# Altium schematic symbol library PlantiumFormat.SchLib: 4 symbols
Pins are listed as number, name and electrical type; pins without a type are passive.

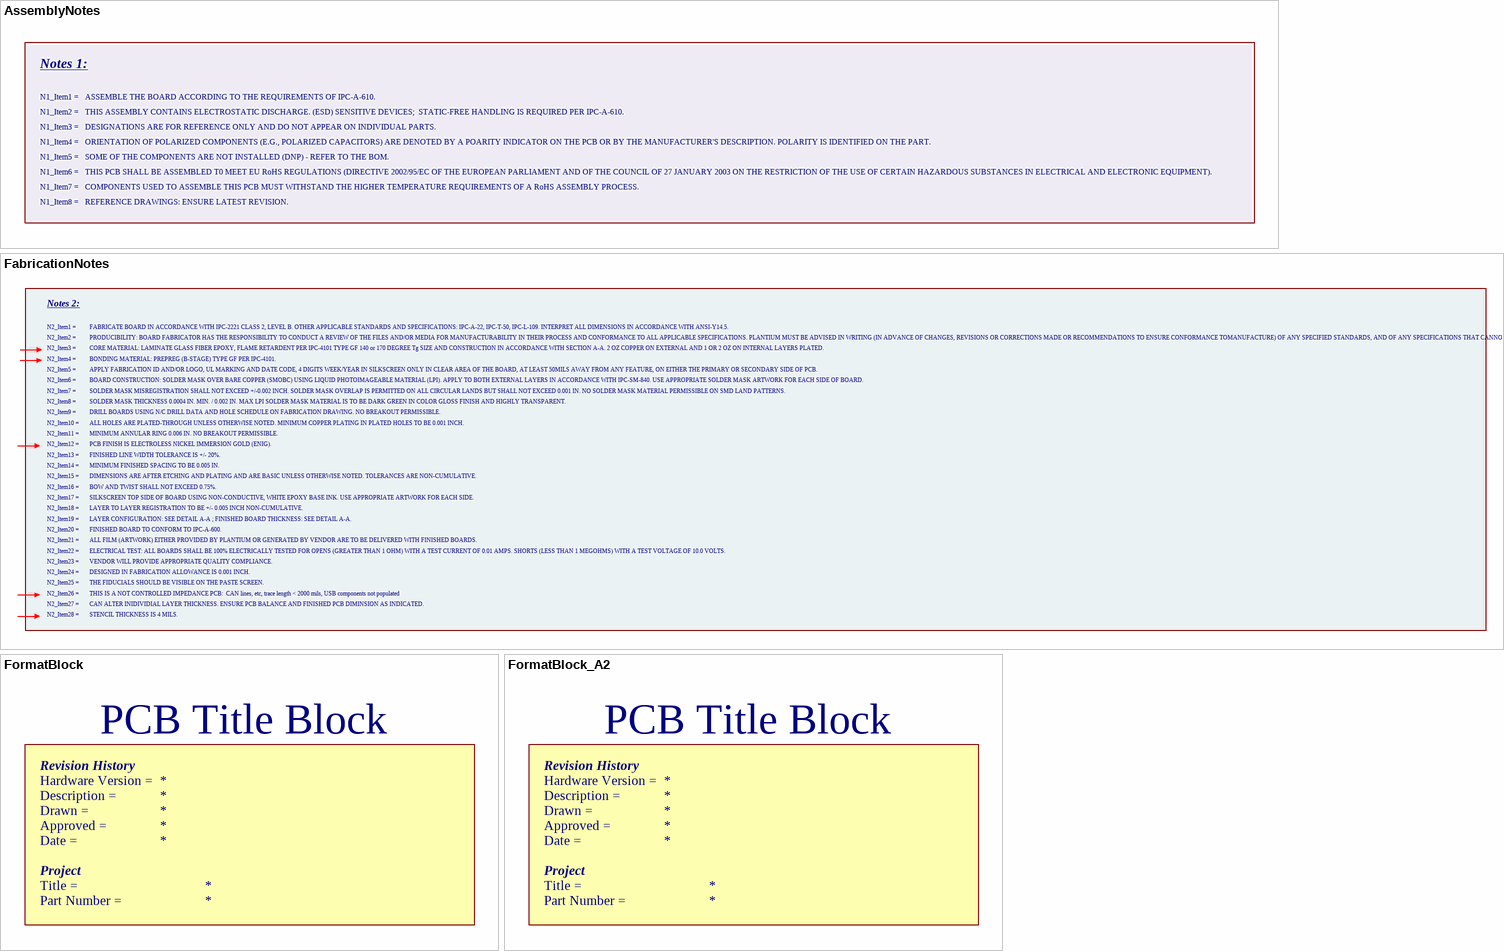
[diagram p0: symbols AssemblyNotes to FormatBlock_A2]

## AssemblyNotes
designator AssemblyNotes  N1_Item8: REFERENCE DRAWINGS: ENSURE LATEST REVISION.  N1_Item7: COMPONENTS USED TO ASSEMBLE THIS PCB MUST WITHSTAND THE HIGHER TEMPERATURE REQUIREMENTS OF A RoHS ASSEMBLY PROCESS.  N1_Item6: THIS PCB SHALL BE ASSEMBLED T0 MEET EU RoHS REGULATIONS (DIRECTIVE 2002/95/EC OF THE EUROPEAN PARLIAMENT AND OF THE COUNCIL OF 27 JANUARY 2003 ON THE RESTRICTION OF THE USE OF CERTAIN HAZARDOUS SUBSTANCES IN ELECTRICAL AND ELECTRONIC EQUIPMENT).  N1_Item5: SOME OF THE COMPONENTS ARE NOT INSTALLED (DNP) - REFER TO THE BOM.  N1_Item4: ORIENTATION OF POLARIZED COMPONENTS (E.G., POLARIZED CAPACITORS) ARE DENOTED BY A POARITY INDICATOR ON THE PCB OR BY THE MANUFACTURER'S DESCRIPTION. POLARITY IS IDENTIFIED ON THE PART.  N1_Item3: DESIGNATIONS ARE FOR REFERENCE ONLY AND DO NOT APPEAR ON INDIVIDUAL PARTS.  N1_Item2: THIS ASSEMBLY CONTAINS ELECTROSTATIC DISCHARGE. (ESD) SENSITIVE DEVICES;  STATIC-FREE HANDLING IS REQUIRED PER IPC-A-610.  N1_Item1: ASSEMBLE THE BOARD ACCORDING TO THE REQUIREMENTS OF IPC-A-610.  (hidden comment: *)
Assembly Notes
footprint ASSNOTES
text: Notes 1:; N1_Item1 =; N1_Item2 =; N1_Item3 =; N1_Item4 =; N1_Item5 =; N1_Item6 =; N1_Item7 =; N1_Item8 =

## FabricationNotes
designator Fabrication Notes  N2_Item28: STENCIL THICKNESS IS 4 MILS.  N2_Item27: CAN ALTER INIDIVIDIAL LAYER THICKNESS. ENSURE PCB BALANCE AND FINISHED PCB DIMINSION AS INDICATED.  N2_Item26: THIS IS A NOT CONTROLLED IMPEDANCE PCB:  CAN lines, etc, trace length < 2000 mils, USB components not populated  N2_Item25: THE FIDUCIALS SHOULD BE VISIBLE ON THE PASTE SCREEN.  N2_Item24: DESIGNED IN FABRICATION ALLOWANCE IS 0.001 INCH.  N2_Item23: VENDOR WILL PROVIDE APPROPRIATE QUALITY COMPLIANCE.  N2_Item22: ELECTRICAL TEST: ALL BOARDS SHALL BE 100% ELECTRICALLY TESTED FOR OPENS (GREATER THAN 1 OHM) WITH A TEST CURRENT OF 0.01 AMPS. SHORTS (LESS THAN 1 MEGOHMS) WITH A TEST VOLTAGE OF 10.0 VOLTS.  N2_Item21: ALL FILM (ARTWORK) EITHER PROVIDED BY PLANTIUM OR GENERATED BY VENDOR ARE TO BE DELIVERED WITH FINISHED BOARDS.  N2_Item20: FINISHED BOARD TO CONFORM TO IPC-A-600.  N2_Item19: LAYER CONFIGURATION: SEE DETAIL A-A ; FINISHED BOARD THICKNESS: SEE DETAIL A-A.  N2_Item18: LAYER TO LAYER REGISTRATION TO BE +/- 0.005 INCH NON-CUMULATIVE.  N2_Item17: SILKSCREEN TOP SIDE OF BOARD USING NON-CONDUCTIVE, WHITE EPOXY BASE INK. USE APPROPRIATE ARTWORK FOR EACH SIDE.  N2_Item16: BOW AND TWIST SHALL NOT EXCEED 0.75%.  N2_Item15: DIMENSIONS ARE AFTER ETCHING AND PLATING AND ARE BASIC UNLESS OTHERWISE NOTED. TOLERANCES ARE NON-CUMULATIVE.  N2_Item14: MINIMUM FINISHED SPACING TO BE 0.005 IN.  N2_Item13: FINISHED LINE WIDTH TOLERANCE IS +/- 20%.  N2_Item12: PCB FINISH IS ELECTROLESS NICKEL IMMERSION GOLD (ENIG).  N2_Item11: MINIMUM ANNULAR RING 0.006 IN. NO BREAKOUT PERMISSIBLE.  N2_Item10: ALL HOLES ARE PLATED-THROUGH UNLESS OTHERWISE NOTED. MINIMUM COPPER PLATING IN PLATED HOLES TO BE 0.001 INCH.  N2_Item9: DRILL BOARDS USING N/C DRILL DATA AND HOLE SCHEDULE ON FABRICATION DRAWING. NO BREAKOUT PERMISSIBLE.  N2_Item8: SOLDER MASK THICKNESS 0.0004 IN. MIN. / 0.002 IN. MAX LPI SOLDER MASK MATERIAL IS TO BE DARK GREEN IN COLOR GLOSS FINISH AND HIGHLY TRANSPARENT.  N2_Item7: SOLDER MASK MISREGISTRATION SHALL NOT EXCEED +/-0.002 INCH. SOLDER MASK OVERLAP IS PERMITTED ON ALL CIRCULAR LANDS BUT SHALL NOT EXCEED 0.001 IN. NO SOLDER MASK MATERIAL PERMISSIBLE ON SMD LAND PATTERNS.  N2_Item6: BOARD CONSTRUCTION: SOLDER MASK OVER BARE COPPER (SMOBC) USING LIQUID PHOTOIMAGEABLE MATERIAL (LPI). APPLY TO BOTH EXTERNAL LAYERS IN ACCORDANCE WITH IPC-SM-840. USE APPROPRIATE SOLDER MASK ARTWORK FOR EACH SIDE OF BOARD.  N2_Item5: APPLY FABRICATION ID AND/OR LOGO, UL MARKING AND DATE CODE, 4 DIGITS WEEK/YEAR IN SILKSCREEN ONLY IN CLEAR AREA OF THE BOARD, AT LEAST 50MILS AWAY FROM ANY FEATURE, ON EITHER THE PRIMARY OR SECONDARY SIDE OF PCB.  N2_Item4: BONDING MATERIAL: PREPREG (B-STAGE) TYPE GF PER IPC-4101.  N2_Item3: CORE MATERIAL: LAMINATE GLASS FIBER EPOXY, FLAME RETARDENT PER IPC-4101 TYPE GF 140 or 170 DEGREE Tg SIZE AND CONSTRUCTION IN ACCORDANCE WITH SECTION A-A. 2 OZ COPPER ON EXTERNAL AND 1 OR 2 OZ ON INTERNAL LAYERS PLATED.  N2_Item2: PRODUCIBILITY: BOARD FABRICATOR HAS THE RESPONSIBILITY TO CONDUCT A REVIEW OF THE FILES AND/OR MEDIA FOR MANUFACTURABILITY IN THEIR PROCESS AND CONFORMANCE TO ALL APPLICABLE SPECIFICATIONS. PLANTIUM MUST BE ADVISED IN WRITING (IN ADVANCE OF CHANGES, REVISIONS OR CORRECTIONS MADE OR RECOMMENDATIONS TO ENSURE CONFORMANCE TOMANUFACTURE) OF ANY SPECIFIED STANDARDS, AND OF ANY SPECIFICATIONS THAT CANNOT BE MET.  N2_Item1: FABRICATE BOARD IN ACCORDANCE WITH IPC-2221 CLASS 2, LEVEL B. OTHER APPLICABLE STANDARDS AND SPECIFICATIONS: IPC-A-22, IPC-T-50, IPC-L-109. INTERPRET ALL DIMENSIONS IN ACCORDANCE WITH ANSI-Y14.5.  (hidden comment: *)
Fabrication Notes
footprint FABNOTES
text: Notes 2:; N2_Item1 =; N2_Item2 =; N2_Item3 =; N2_Item4 =; N2_Item5 =; N2_Item6 =; N2_Item7 =; N2_Item8 =; N2_Item9 =; N2_Item10 =; N2_Item11 =; N2_Item12 =; N2_Item13 =; N2_Item14 =; N2_Item15 =; N2_Item16 =; N2_Item17 =; N2_Item18 =; N2_Item19 =; N2_Item20 =; N2_Item21 =; N2_Item22 =; N2_Item23 =; N2_Item24 =; N2_Item25 =; N2_Item26 =; N2_Item27 =; N2_Item28 =

## FormatBlock
designator Title Block  (value not drawn)  (no BOM)
Fill this block's parameters to complete the text shown in the PCB file (Title Block); HW_Version: *; ProjectTitle: *; PartNumber: *; RevDescription: *; Drawn: *; Approved: *; RevDate: *
footprint FormatBlock
text: PCB Title Block; Revision History; Hardware Version =; Description =; Drawn =; Approved =; Date =; Project; Title =; Part Number =

## FormatBlock_A2
designator Title Block  (value not drawn)  (no BOM)
Fill this block's parameters to complete the text shown in the PCB file (Title Block); HW_Version: *; ProjectTitle: *; PartNumber: *; RevDescription: *; Drawn: *; Approved: *; RevDate: *
footprint FormatBlock_A2
text: PCB Title Block; Revision History; Hardware Version =; Description =; Drawn =; Approved =; Date =; Project; Title =; Part Number =